# Altium schematic symbol library FET.SchLib: 5 symbols
Pins are listed as number, name and electrical type; pins without a type are passive.

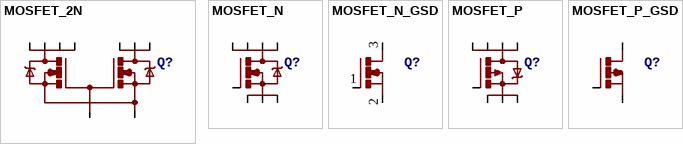
[diagram p0: symbols MOSFET_2N to MOSFET_P_GSD]

## MOSFET_2N
designator Q?
=Description
pins: 1 D1, 2 D1, 3 D1, 4 D1, 5 G, 6 D2, 7 D2, 8 D2, EP S

## MOSFET_N
designator Q?
=Description
pins: 1 S, 2 S, 3 S, 4 G, 5 D, 6 D, 7 D, 8 D

## MOSFET_N_GSD
designator Q?
=Description
pins: 1 G, 2 S, 3 D

## MOSFET_P
designator Q?
=Description
pins: 1 S, 2 S, 3 S, 4 G, 5 D, 6 D, 7 D, 8 D

## MOSFET_P_GSD
designator Q?
=Description
pins: 1 G, 2 S, 3 D